# Altium footprint library PEI_PCB_1.1.PcbLib: 310 footprints (part 11 of 20)
Each footprint in its own frame and in the unit in brackets; x right, y up, seen from the top. Pads: shape width x height; smd on the part's side, far side on the other; paste and mask are expansions set on the pad; w line width, h text height; cw(c..) or ccw(c..) is an arc to the next point about the centre after c.
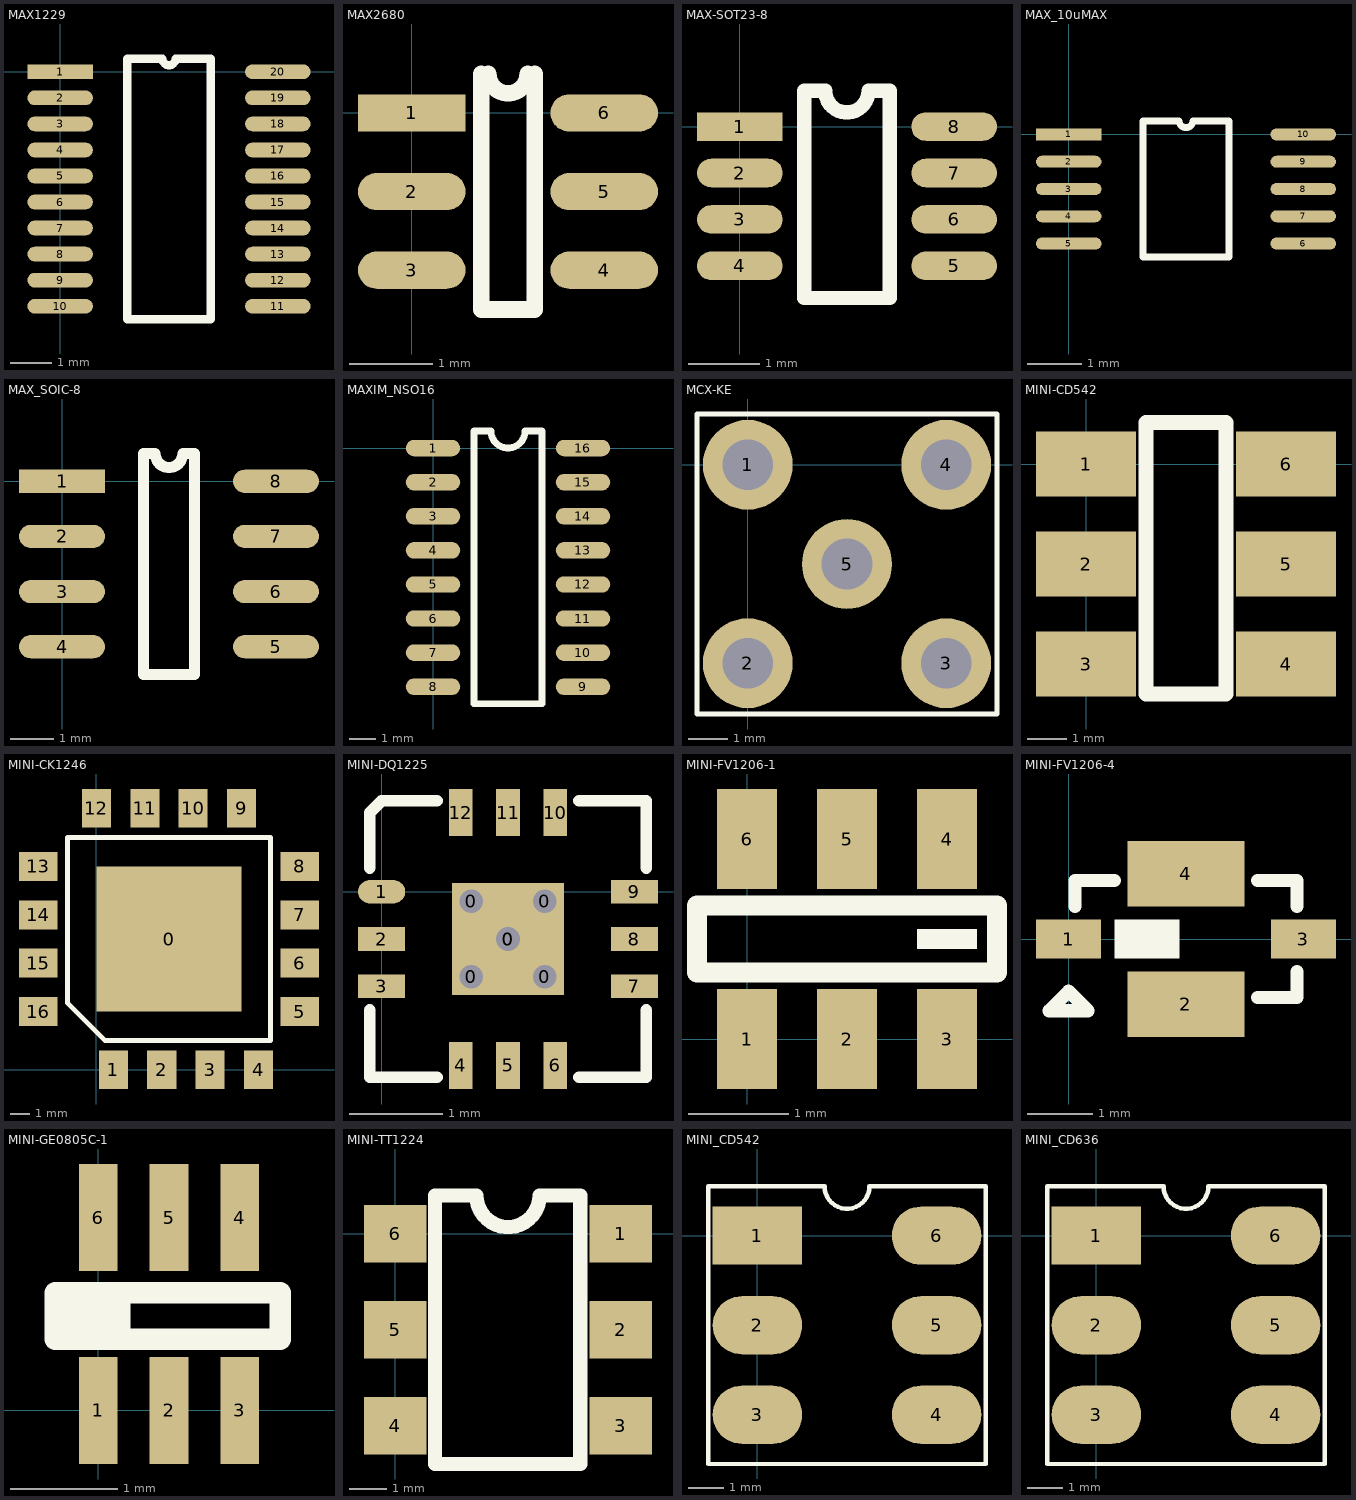
[diagram p10: the footprints below, top view; thin cyan lines are the x and y axes]

## MAX1229 [mm]
pads (20):
  rect 1.6x0.36 smd: 1(0,0)
  oval 1.6x0.36 smd: 2(0,-0.635) 3(0,-1.27) 4(0,-1.905) 5(0,-2.54) 6(0,-3.175) 7(0,-3.81) 8(0,-4.445) 9(0,-5.08) 10(0,-5.715) 11(5.31,-5.715) 12(5.31,-5.08) 13(5.31,-4.445) 14(5.31,-3.81) 15(5.31,-3.175) 16(5.31,-2.54) 17(5.31,-1.905) 18(5.31,-1.27) 19(5.31,-0.635) 20(5.31,0)
TopOverlay:
  lines w0.2: 1.635,-6.032 1.635,0.318 2.496,0.318 ccw(c2.655,0.318) 2.814,0.317 3.675,0.318 3.675,-6.032 1.635,-6.032

## MAX2680 [mm]
pads (6):
  rect 1.3x0.45 smd: 1(0,0)
  oval 1.3x0.45 smd: 2(0,-0.95) 3(0,-1.9) 4(2.325,-1.9) 5(2.325,-0.95) 6(2.325,0)
TopOverlay:
  lines w0.2: 0.84,0.475 0.84,-2.375 1.485,-2.375 1.485,0.475 ; 0.925,0.475 ccw(c1.163,0.475) 1.4,0.475

## MAX-SOT23-8 [mm]
pads (8):
  rect 1.2x0.4 smd: 1(0,0)
  oval 1.2x0.4 smd: 2(0,-0.65) 3(0,-1.3) 4(0,-1.95) 5(3,-1.95) 6(3,-1.3) 7(3,-0.65) 8(3,0)
TopOverlay:
  lines w0.2: 1.195,0.5 ccw(c1.498,0.5) 1.8,0.5 2.1,0.5 2.1,-2.4 0.9,-2.4 0.9,0.5 1.2,0.5

## MAX_10uMAX [mm]
pads (10):
  rect 1.2x0.22 smd: 1(0,0)
  oval 1.2x0.22 smd: 2(0,-0.5) 3(0,-1) 4(0,-1.5) 5(0,-2) 6(4.3,-2) 7(4.3,-1.5) 8(4.3,-1) 9(4.3,-0.5) 10(4.3,0)
TopOverlay:
  lines w0.127: 1.362,-2.25 2.938,-2.25 2.938,0.25 2.275,0.25 cw(c2.15,0.25) 2.025,0.25 1.362,0.25 1.362,-2.25

## MAX_SOIC-8 [mil]
pads (8):
  rect 78x21 smd: 1(0,0)
  oval 78x21 smd: 2(0,-50) 3(0,-100) 4(0,-150) 5(194,-150) 6(194,-100) 7(194,-50) 8(194,0)
TopOverlay:
  lines w10: 74,-175 120,-175 120,25 109.5,25 cw(c97,25) 84.5,25 74,25 74,-175

## MAXIM_NSO16 [mil]
pads (16):
  oval 80x24 smd: 1(0,0) 2(0,-50) 3(0,-100) 4(0,-150) 5(0,-200) 6(0,-250) 7(0,-300) 8(0,-350) 9(220,-350) 10(220,-300) 11(220,-250) 12(220,-200) 13(220,-150) 14(220,-100) 15(220,-50) 16(220,0)
TopOverlay:
  lines w10: 60,-375 160,-375 160,25 135,25 cw(c110,25) 85,25 60,25 60,-375

## MCX-KE [mm]
pads (5):
  round 2.3 hole 1.3: 1(0,0) 2(0,-5.08) 3(5.08,-5.08) 4(5.08,0) 5(2.54,-2.54)
TopOverlay:
  lines w0.127: -1.3,-6.38 6.38,-6.38 6.38,1.3 -1.3,1.3 -1.3,-6.38

## MINI-CD542 [mm]
pads (6):
  rect 2.54x1.65 smd: 1(0,0) 2(0,-2.54) 3(0,-5.08) 4(5.08,-5.08) 5(5.08,-2.54) 6(5.08,0)
TopOverlay:
  lines w0.381: 3.55,1.05 1.525,1.05 1.524,-5.842 3.556,-5.842 3.556,1.016

## MINI-CK1246 [mil]
pads (17):
  rect 300x300 smd: 0(150,270)
  rect 60x80 smd: 1(35,0) 2(135,0) 3(235,0) 4(335,0) 9(300,540) 10(200,540) 11(100,540) 12(0,540)
  rect 80x60 smd: 5(420,120) 6(420,220) 7(420,320) 8(420,420) 13(-120,420) 14(-120,320) 15(-120,220) 16(-120,120)
TopOverlay:
  lines w10: -60,138 -60,420 -60,480 0,480 360,480 360,60 18,60 -60,138

## MINI-DQ1225 [mil]
pads (18):
  round 15 hole 10: 0(38,-36) 0(38,-4) 0(53.5,-20) 0(69,-36) 0(69,-4)
  rect 47.24x47.24 smd: 0(53.5,-20)
  oval 20x10 smd: 1(0,0)
  rect 20x10 smd: 2(0,-20) 3(0,-40) 7(107,-40) 8(107,-20) 9(107,0)
  rect 10x20 smd: 4(33.5,-73.5) 5(53.5,-73.5) 6(73.5,-73.5) 10(73.5,33.5) 11(53.5,33.5) 12(33.5,33.5)
TopOverlay:
  lines w5: -5,-50 -5,-78.5 23.5,-78.5 ; -5,10 -5,33.5 0,38.5 23.5,38.5 ; 83.5,-78.5 112,-78.5 112,-50 ; 83.5,38.5 112,38.5 112,10

## MINI-FV1206-1 [mm]
pads (6):
  rect 0.6x1 smd: 1(0,0) 2(1,0) 3(2,0) 4(2,2) 5(1,2) 6(0,2)
TopOverlay:
  rectangle: 1.7,0.9 2.3,1.1
  lines w0.2: -0.5,0.665 2.5,0.665 2.5,1.335 -0.5,1.335 -0.5,0.665

## MINI-FV1206-4 [mm]
pads (4):
  rect 1x0.6 smd: 1(0,0) 3(3.6,0)
  rect 1.8x1 smd: 2(1.8,-1) 4(1.8,1)
TopOverlay:
  rectangle: 0.7,-0.3 1.7,0.3
  lines w0.2: 0.1,0.5 0.1,0.9 0.7,0.9 ; 2.9,-0.9 3.5,-0.9 3.5,-0.5 ; 2.9,0.9 3.5,0.9 3.5,0.5 ; -0.3,-1.1 0,-0.8 0.3,-1.1 ; -0.3,-1.1 -0.3,-1.1 ; -0.3,-1.1 0.3,-1.1 ; 0.3,-1.1 0.3,-1.1

## MINI-GE0805C-1 [mm]
pads (6):
  rect 0.36x1 smd: 1(0,0) 2(0.66,0) 3(1.32,0) 4(1.32,1.8) 5(0.66,1.8) 6(0,1.8)
TopOverlay:
  rectangle: -0.3,0.7 0.3,1
  lines w0.2: -0.4,0.665 1.7,0.665 1.7,1.1 -0.4,1.1 -0.4,0.665

## MINI-TT1224 [mm]
pads (6):
  rect 1.65x1.52 smd: 1(5.97,0) 2(5.97,-2.54) 3(5.97,-5.08) 4(0,-5.08) 5(0,-2.54) 6(0,0)
TopOverlay:
  lines w0.381: 3.821,1.016 cw(c2.985,1.016) 2.149,1.016 1.052,1.016 1.052,-6.096 4.9,-6.096 4.9,1.016 3.871,1.016

## MINI_CD542 [mil]
pads (6):
  rect 100x65 smd: 1(0,0)
  oval 100x65 smd: 2(0,-100) 3(0,-200) 4(200,-200) 5(200,-100) 6(200,0)
TopOverlay:
  lines w5: -55,-255 -55,55 75,55 ccw(c100,55) 125,55 255,55 255,-255 -55,-255

## MINI_CD636 [mil]
pads (6):
  rect 100x65 smd: 1(0,0)
  oval 100x65 smd: 2(0,-100) 3(0,-200) 4(200,-200) 5(200,-100) 6(200,0)
TopOverlay:
  lines w5: -55,-255 -55,55 75,55 ccw(c100,55) 125,55 255,55 255,-255 -55,-255